# Altium schematic symbol library Connectors.SchLib: 35 symbols
Pins are listed as number, name and electrical type; pins without a type are passive.

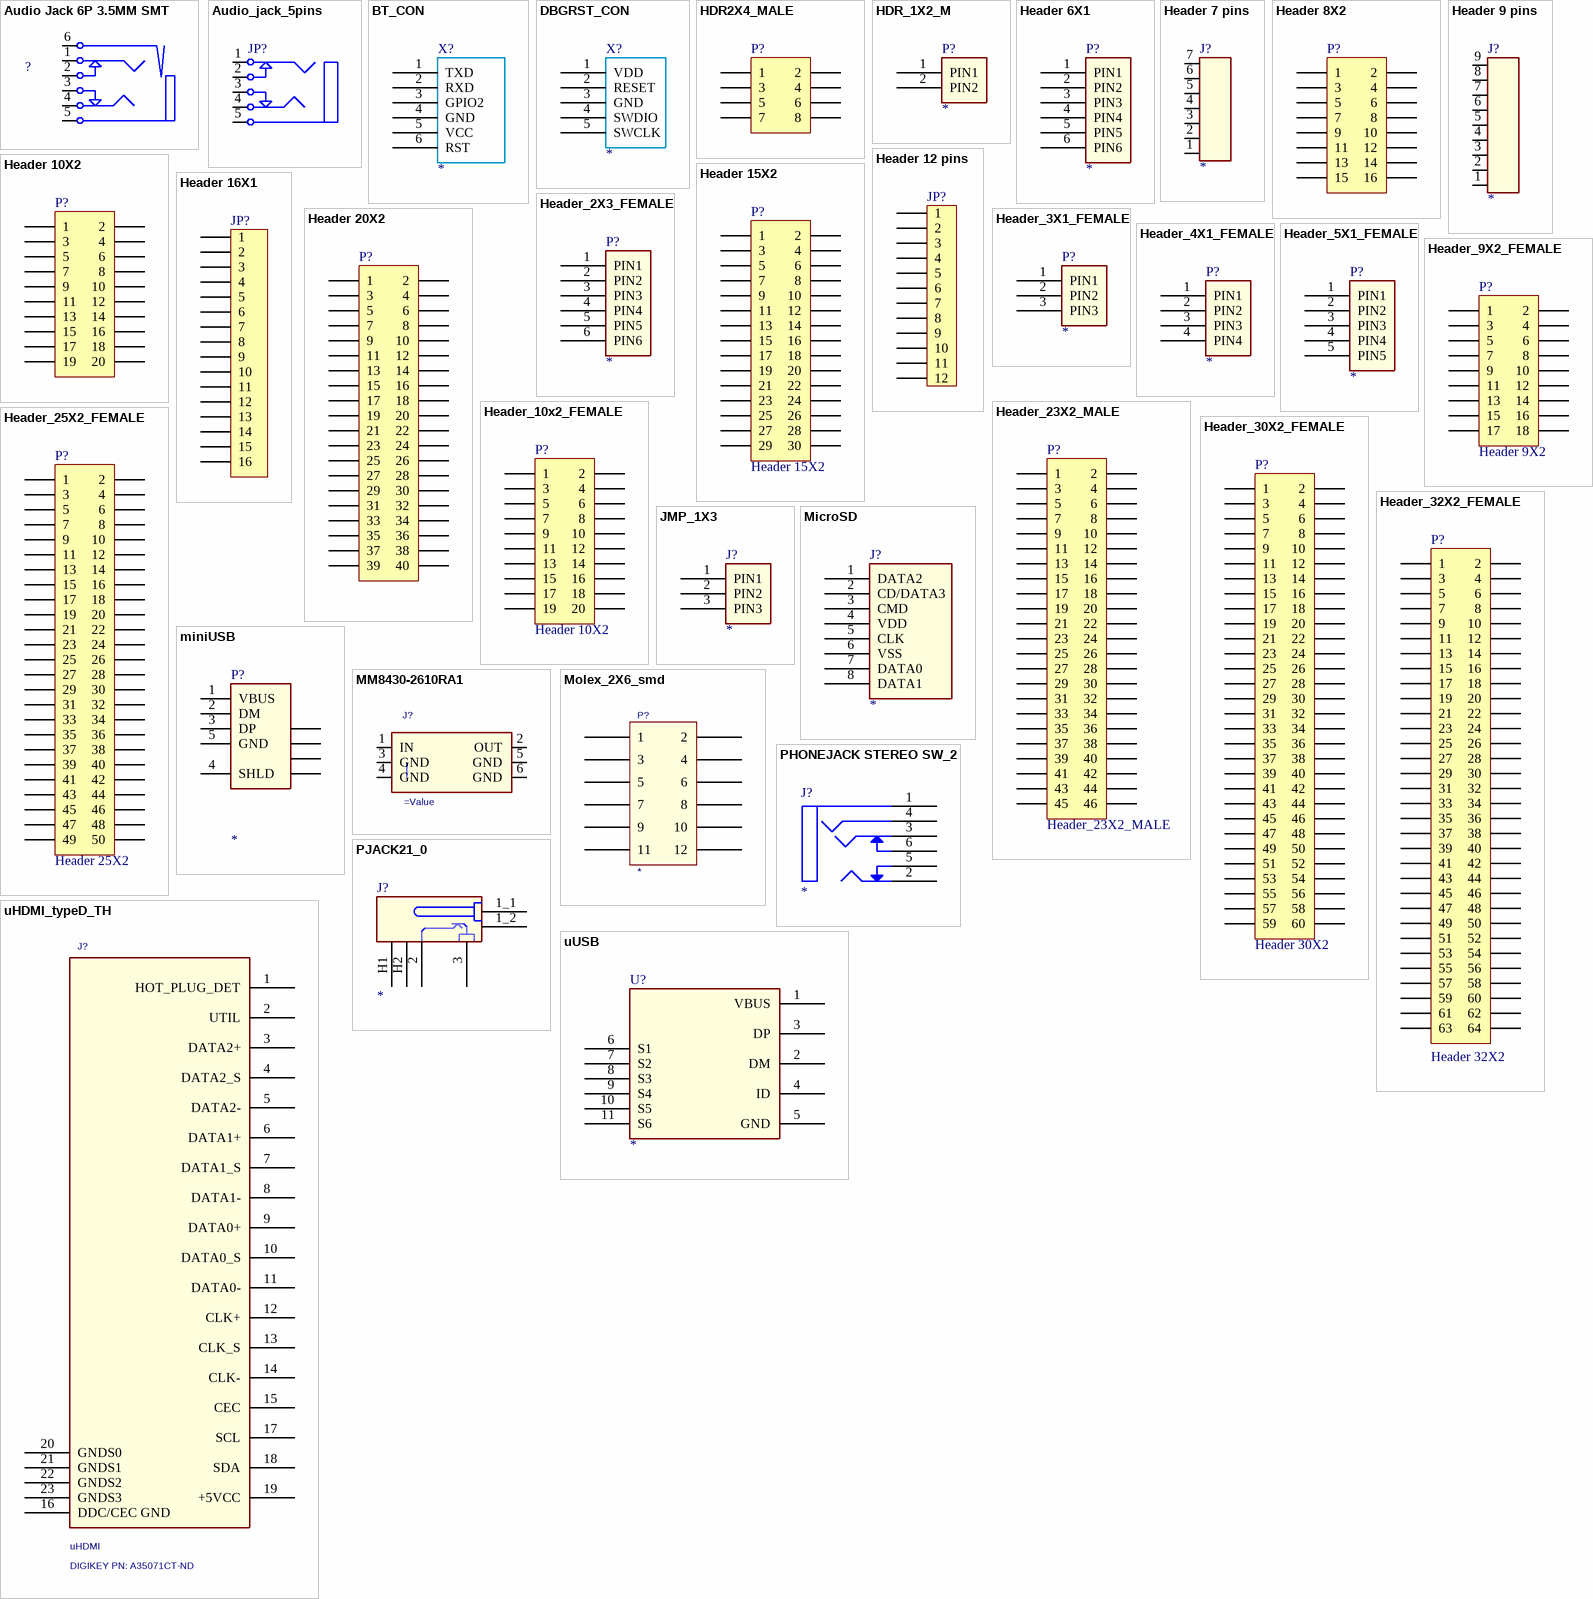
[diagram p0: symbols Audio Jack 6P 3.5MM SMT to uUSB]

## Audio Jack 6P 3.5MM SMT
designator ?
pins: 1, 2, 3, 4, 5, 6

## Audio_jack_5pins
designator JP?
pins: 1, 2, 3, 4, 5

## BT_CON
designator X?
pins: 1 TXD (power), 2 RXD, 3 GPIO2, 4 GND, 5 VCC, 6 RST

## DBGRST_CON
designator X?
pins: 1 VDD (power), 2 RESET, 3 GND, 4 SWDIO, 5 SWCLK

## HDR2X4_MALE
designator P?
Header, 8-Pin, Dual row, MALE
pins: 1, 2, 3, 4, 5, 6, 7, 8

## HDR_1X2_M
designator P?
pins: 1 PIN1, 2 PIN2

## Header 6X1
designator P?
HDR 6x1
pins: 1 PIN1, 2 PIN2, 3 PIN3, 4 PIN4, 5 PIN5, 6 PIN6

## Header 7 pins
designator J?
pins: 1, 2, 3, 4, 5, 6, 7

## Header 8X2
designator P?
Header, 16-Pin, Dual row
pins: 1, 2, 3, 4, 5, 6, 7, 8, 9, 10, 11, 12, 13, 14, 15, 16

## Header 9 pins
designator J?
pins: 1, 2, 3, 4, 5, 6, 7, 8, 9

## Header 10X2
designator P?
Header, 20-Pin, Dual row
pins: 1, 2, 3, 4, 5, 6, 7, 8, 9, 10, 11, 12, 13, 14, 15, 16, 17, 18, 19, 20

## Header 12 pins
designator JP?
pins: 1, 2, 3, 4, 5, 6, 7, 8, 9, 10, 11, 12

## Header 15X2
designator P?
Header, 15-Pin, Dual row; LatestRevisionDate: 17-Jul-2002; LatestRevisionNote: Re-released for DXP Platform.; Publisher: Altium Limited
signal-integrity model Connector
pins: 1, 2, 3, 4, 5, 6, 7, 8, 9, 10, 11, 12, 13, 14, 15, 16, 17, 18, 19, 20, 21, 22, 23, 24, 25, 26, 27, 28, 29, 30

## Header 16X1
designator JP?
Header 16x1 pins, Single row
pins: 1, 2, 3, 4, 5, 6, 7, 8, 9, 10, 11, 12, 13, 14, 15, 16

## Header 20X2
designator P?
Header, 20-Pin, Dual row; LatestRevisionDate: 17-Jul-2002; LatestRevisionNote: Re-released for DXP Platform.; Publisher: Altium Limited
footprint HDR2X20 (Connector; Header; 20x2 Position)
signal-integrity model Connector
pins: 1, 2, 3, 4, 5, 6, 7, 8, 9, 10, 11, 12, 13, 14, 15, 16, 17, 18, 19, 20, 21, 22, 23, 24, 25, 26, 27, 28, 29, 30, 31, 32, 33, 34, 35, 36, 37, 38, 39, 40

## Header_2X3_FEMALE
designator P?
HDR_2X3
pins: 1 PIN1, 2 PIN2, 3 PIN3, 4 PIN4, 5 PIN5, 6 PIN6

## Header_3X1_FEMALE
designator P?
HDR_1X3
pins: 1 PIN1, 2 PIN2, 3 PIN3

## Header_4X1_FEMALE
designator P?
HDR_1X4
pins: 1 PIN1, 2 PIN2, 3 PIN3, 4 PIN4

## Header_5X1_FEMALE
designator P?
HDR_5X1
pins: 1 PIN1, 2 PIN2, 3 PIN3, 4 PIN4, 5 PIN5

## Header_9X2_FEMALE
designator P?, comment Header 9X2
Header, 18-Pin, Dual row FEMALE; LatestRevisionDate: 17-Jul-2002; LatestRevisionNote: Re-released for DXP Platform.; Publisher: Altium Limited
signal-integrity model Connector
pins: 1, 2, 3, 4, 5, 6, 7, 8, 9, 10, 11, 12, 13, 14, 15, 16, 17, 18

## Header_10x2_FEMALE
designator P?, comment Header 10X2
Header, 20-Pin, Dual row FEMALE; LatestRevisionDate: 17-Jul-2002; LatestRevisionNote: Re-released for DXP Platform.; Publisher: Altium Limited
signal-integrity model Connector
pins: 1, 2, 3, 4, 5, 6, 7, 8, 9, 10, 11, 12, 13, 14, 15, 16, 17, 18, 19, 20

## Header_23X2_MALE
designator P?
Header, 46-Pin, Dual row MALE; LatestRevisionDate: 17-Jul-2002; LatestRevisionNote: Re-released for DXP Platform.; Publisher: Altium Limited
signal-integrity model Connector
pins: 1, 2, 3, 4, 5, 6, 7, 8, 9, 10, 11, 12, 13, 14, 15, 16, 17, 18, 19, 20, 21, 22, 23, 24, 25, 26, 27, 28, 29, 30, 31, 32, 33, 34, 35, 36, 37, 38, 39, 40, 41, 42, 43, 44, 45, 46

## Header_25X2_FEMALE
designator P?, comment Header 25X2
Header, 50-Pin, Dual row FEMALE; LatestRevisionDate: 17-Jul-2002; LatestRevisionNote: Re-released for DXP Platform.; Publisher: Altium Limited
signal-integrity model Connector
pins: 1, 2, 3, 4, 5, 6, 7, 8, 9, 10, 11, 12, 13, 14, 15, 16, 17, 18, 19, 20, 21, 22, 23, 24, 25, 26, 27, 28, 29, 30, 31, 32, 33, 34, 35, 36, 37, 38, 39, 40, 41, 42, 43, 44, 45, 46, 47, 48, 49, 50

## Header_30X2_FEMALE
designator P?, comment Header 30X2
Header, 60-Pin, Dual row FEMALE; LatestRevisionDate: 17-Jul-2002; LatestRevisionNote: Re-released for DXP Platform.; Publisher: Altium Limited
signal-integrity model Connector
pins: 1, 2, 3, 4, 5, 6, 7, 8, 9, 10, 11, 12, 13, 14, 15, 16, 17, 18, 19, 20, 21, 22, 23, 24, 25, 26, 27, 28, 29, 30, 31, 32, 33, 34, 35, 36, 37, 38, 39, 40, 41, 42, 43, 44, 45, 46, 47, 48, 49, 50, 51, 52, 53, 54, 55, 56, 57, 58, 59, 60

## Header_32X2_FEMALE
designator P?, comment Header 32X2
Header, 64-Pin, Dual row FEMALE; LatestRevisionDate: 17-Jul-2002; LatestRevisionNote: Re-released for DXP Platform.; Publisher: Altium Limited
signal-integrity model Connector
pins: 1, 2, 3, 4, 5, 6, 7, 8, 9, 10, 11, 12, 13, 14, 15, 16, 17, 18, 19, 20, 21, 22, 23, 24, 25, 26, 27, 28, 29, 30, 31, 32, 33, 34, 35, 36, 37, 38, 39, 40, 41, 42, 43, 44, 45, 46, 47, 48, 49, 50, 51, 52, 53, 54, 55, 56, 57, 58, 59, 60, 61, 62, 63, 64

## JMP_1X3
designator J?
JMP_1X3
pins: 1 PIN1, 2 PIN2, 3 PIN3

## MicroSD
designator J?
MicroSD Holder
pins: 1 DATA2, 2 CD/DATA3, 3 CMD, 4 VDD, 5 CLK, 6 VSS, 7 DATA0 , 8 DATA1

## miniUSB
designator P?
miniUSB
pins: 1 VBUS, 2 DM, 3 DP, 4 SHLD, 5 GND, 6, 7, 8, 9

## MM8430-2610RA1
designator J?
pins: 1 IN, 2 OUT (power), 3 GND (power), 4 GND (power), 5 GND (power), 6 GND (power)

## Molex_2X6_smd
designator P?
pins: 1, 2, 3, 4, 5, 6, 7, 8, 9, 10, 11, 12

## PHONEJACK STEREO SW_2
designator J?
pins: 1 SLEEVE, 2 TIP, 3 RING1, 4 RING2, 5 TIPSW, 6 RINGSW

## PJACK21_0
designator J?
pins: 1_1, 1_2, 2, 3, H1, H2

## uHDMI_typeD_TH
designator J?, comment uHDMI  DIGIKEY PN: A35071CT-ND
CONN, MICRO HDMI TYPE-D RCPT, TH, RoHS; PART_NUMBER: 1747981-1; MANUFACTURE: TE CONNECTIVITY; CRITICAL: YES; CLASS: IO; ROHS: YES; PACKAGE SIZE: uHDMI
pins: 1 HOT_PLUG_DET, 2 UTIL, 3 DATA2+, 4 DATA2_S, 5 DATA2-, 6 DATA1+, 7 DATA1_S, 8 DATA1-, 9 DATA0+, 10 DATA0_S, 11 DATA0-, 12 CLK+, 13 CLK_S, 14 CLK-, 15 CEC, 16 DDC/CEC GND, 17 SCL, 18 SDA, 19 +5VCC, 20 GNDS0, 21 GNDS1, 22 GNDS2, 23 GNDS3

## uUSB
designator U?
pins: 1 VBUS, 2 DM, 3 DP, 4 ID, 5 GND, 6 S1, 7 S2, 8 S3, 9 S4, 10 S5, 11 S6

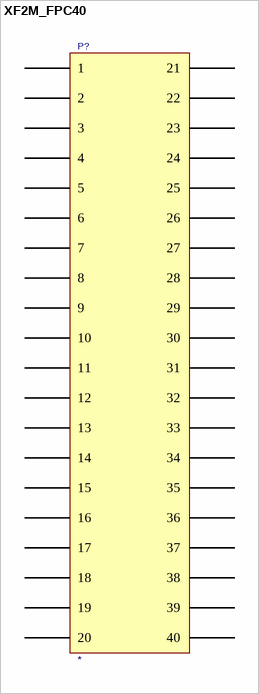
[diagram p1: symbol XF2M_FPC40]

## XF2M_FPC40
designator P?
pins: 1, 2, 3, 4, 5, 6, 7, 8, 9, 10, 11, 12, 13, 14, 15, 16, 17, 18, 19, 20, 21, 22, 23, 24, 25, 26, 27, 28, 29, 30, 31, 32, 33, 34, 35, 36, 37, 38, 39, 40